# Altium schematic symbol library C3216C0G1H104J160AA.SchLib: 1 symbol
Pins are listed as number, name and electrical type; pins without a type are passive.

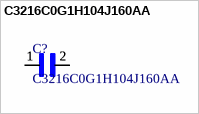
[diagram p0: symbol C3216C0G1H104J160AA]

## C3216C0G1H104J160AA
designator C?
Value: 0.1uF
footprint C3216C0G1H104J160AA
pins: 1, 1, 2, 2